# EAGLE library part TPS56X21 (library test)
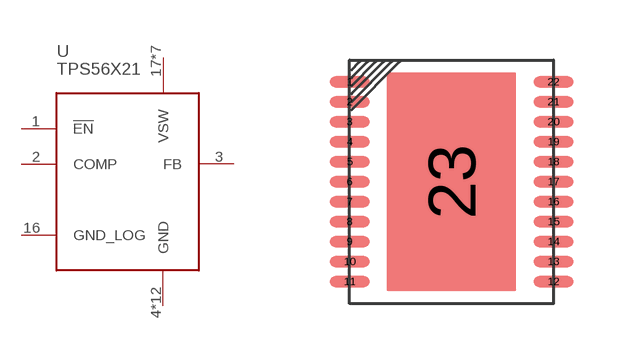
[diagram p0: symbol with the pads of PQFN-22-V6; footprint PQFN-22-V6]

Designator prefix -

## TPS56X21  [PQFN-22-V6]
1  !EN
2  COMP
3  FB
4  GND
5  GND
6  GND
7  GND
8  GND
9  GND
10  GND
11  GND
12  GND
13  GND
14  GND
15  GND
16  GND_LOG
17  VSW
18  VSW
19  VSW
20  VSW
21  VSW
22  VSW
23  VSW

## Footprint PQFN-22-V6 (pad centres in mm)
smd 1 x 0.28: 1 -2.55,2.5; 2 -2.55,2; 3 -2.55,1.5; 4 -2.55,1; 5 -2.55,0.5; 6 -2.55,0; 7 -2.55,-0.5; 8 -2.55,-1; 9 -2.55,-1.5; 10 -2.55,-2; 11 -2.55,-2.5; 12 2.55,-2.5; 13 2.55,-2; 14 2.55,-1.5; 15 2.55,-1; 16 2.55,-0.5; 17 2.55,0; 18 2.55,0.5; 19 2.55,1; 20 2.55,1.5; 21 2.55,2; 22 2.55,2.5
smd 3.24 x 5.48: 23 0,0